# Altium footprint library tdk.PcbLib: 64 footprints (part 2 of 4)
Each footprint in its own frame and in the unit in brackets; x right, y up, seen from the top. Pads: shape width x height; smd on the part's side, far side on the other; paste and mask are expansions set on the pad; w line width, h text height; cw(c..) or ccw(c..) is an arc to the next point about the centre after c.
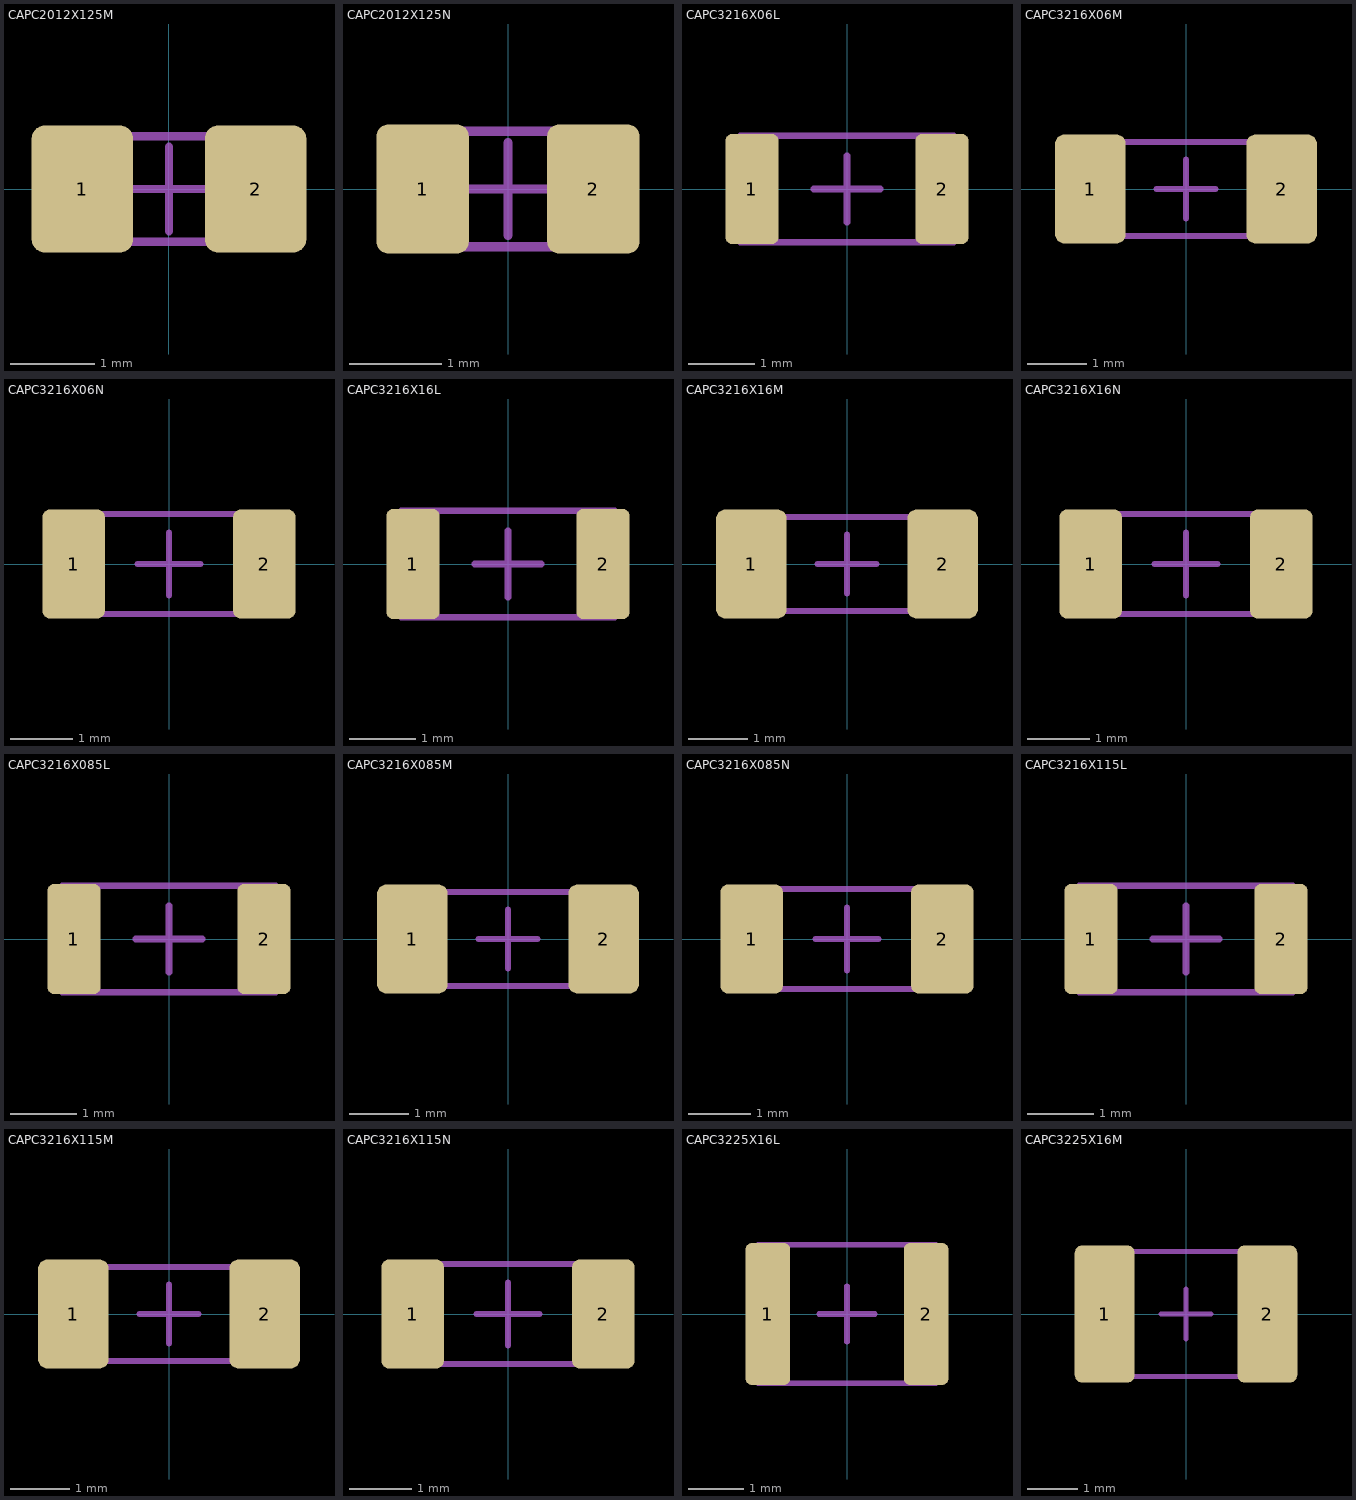
[diagram p1: the footprints below, top view; thin cyan lines are the x and y axes]

## CAPC2012X125M [mm] "Chip Capacitor, 2-Leads, Body 2.00x1.25mm, IPC Low Density"
height 1.25
pads (2):
  rrect25% 1.2x1.5 smd mask+0.05: 1(-1.025,0) 2(1.025,0)
Mechanical 15:
  lines w0.1: -0.5,0 0.5,0 ; 0,-0.5 0,0.5 ; -1,-0.625 1,-0.625 1,0.625 -1,0.625 -1,-0.625
3D body "CAPC2012X12M.step": height 1.25, standoff 0, extent -1,-0.625 1,0.625

## CAPC2012X125N [mm] "Chip Capacitor, 2-Leads, Body 2.00x1.25mm, IPC Medium Density"
height 1.25
pads (2):
  rrect25% 1x1.4 smd mask+0.05: 1(-0.925,0) 2(0.925,0)
Mechanical 15:
  lines w0.1: -0.5,0 0.5,0 ; 0,-0.5 0,0.5 ; -1,-0.625 1,-0.625 1,0.625 -1,0.625 -1,-0.625
3D body "CAPC2012X12N.step": height 1.25, standoff 0, extent -1,-0.625 1,0.625

## CAPC3216X06L [mm] "Chip Capacitor, 2-Leads, Body 3.20x1.60mm, IPC High Density"
height 0.6
pads (2):
  rrect25% 0.8x1.65 smd mask+0.05: 1(-1.425,0) 2(1.425,0)
Mechanical 15:
  lines w0.1: -0.5,0 0.5,0 ; 0,-0.5 0,0.5 ; -1.6,-0.8 1.6,-0.8 1.6,0.8 -1.6,0.8 -1.6,-0.8
3D body "CAPC3216X06L.step": height 0.6, standoff 0, extent -1.6,-0.8 1.6,0.8

## CAPC3216X06M [mm] "Chip Capacitor, 2-Leads, Body 3.20x1.60mm, IPC Low Density"
height 0.6
pads (2):
  rrect25% 1.2x1.85 smd mask+0.05: 1(-1.625,0) 2(1.625,0)
Mechanical 15:
  lines w0.1: -0.5,0 0.5,0 ; 0,-0.5 0,0.5 ; -1.6,-0.8 -1.6,0.8 1.6,0.8 1.6,-0.8 -1.6,-0.8
3D body "CAPC3216X06M.step": height 0.6, standoff 0, extent -1.6,-0.8 1.6,0.8

## CAPC3216X06N [mm] "Chip Capacitor, 2-Leads, Body 3.20x1.60mm, IPC Medium Density"
height 0.6
pads (2):
  rrect25% 1x1.75 smd mask+0.05: 1(-1.525,0) 2(1.525,0)
Mechanical 15:
  lines w0.1: -0.5,0 0.5,0 ; 0,-0.5 0,0.5 ; -1.6,-0.8 -1.6,0.8 1.6,0.8 1.6,-0.8 -1.6,-0.8
3D body "CAPC3216X06N.step": height 0.6, standoff 0, extent -1.6,-0.8 1.6,0.8

## CAPC3216X16L [mm] "Chip Capacitor, 2-Leads, Body 3.20x1.60mm, IPC High Density"
height 1.6
pads (2):
  rrect25% 0.8x1.65 smd mask+0.05: 1(-1.425,0) 2(1.425,0)
Mechanical 15:
  lines w0.1: -0.5,0 0.5,0 ; 0,-0.5 0,0.5 ; -1.6,-0.8 1.6,-0.8 1.6,0.8 -1.6,0.8 -1.6,-0.8
3D body "CAPC3216X16L.step": height 1.6, standoff 0, extent -1.6,-0.8 1.6,0.8

## CAPC3216X16M [mm] "Chip Capacitor, 2-Leads, Body 3.20x1.60mm, IPC Low Density"
height 1.6
pads (2):
  rrect25% 1.2x1.85 smd mask+0.05: 1(-1.625,0) 2(1.625,0)
Mechanical 15:
  lines w0.1: -0.5,0 0.5,0 ; 0,-0.5 0,0.5 ; -1.6,-0.8 -1.6,0.8 1.6,0.8 1.6,-0.8 -1.6,-0.8
3D body "CAPC3216X16M.step": height 1.6, standoff 0, extent -1.6,-0.8 1.6,0.8

## CAPC3216X16N [mm] "Chip Capacitor, 2-Leads, Body 3.20x1.60mm, IPC Medium Density"
height 1.6
pads (2):
  rrect25% 1x1.75 smd mask+0.05: 1(-1.525,0) 2(1.525,0)
Mechanical 15:
  lines w0.1: -0.5,0 0.5,0 ; 0,-0.5 0,0.5 ; -1.6,-0.8 -1.6,0.8 1.6,0.8 1.6,-0.8 -1.6,-0.8
3D body "CAPC3216X16N.step": height 1.6, standoff 0, extent -1.6,-0.8 1.6,0.8

## CAPC3216X085L [mm] "Chip Capacitor, 2-Leads, Body 3.20x1.60mm, IPC High Density"
height 0.85
pads (2):
  rrect25% 0.8x1.65 smd mask+0.05: 1(-1.425,0) 2(1.425,0)
Mechanical 15:
  lines w0.1: -0.5,0 0.5,0 ; 0,-0.5 0,0.5 ; -1.6,-0.8 -1.6,0.8 1.6,0.8 1.6,-0.8 -1.6,-0.8
3D body "CAPC3216X08L.step": height 0.85, standoff 0, extent -1.6,-0.8 1.6,0.8

## CAPC3216X085M [mm] "Chip Capacitor, 2-Leads, Body 3.20x1.60mm, IPC Low Density"
height 0.85
pads (2):
  rrect25% 1.2x1.85 smd mask+0.05: 1(-1.625,0) 2(1.625,0)
Mechanical 15:
  lines w0.1: -0.5,0 0.5,0 ; 0,-0.5 0,0.5 ; -1.6,-0.8 1.6,-0.8 1.6,0.8 -1.6,0.8 -1.6,-0.8
3D body "CAPC3216X08M.step": height 0.85, standoff 0, extent -1.6,-0.8 1.6,0.8

## CAPC3216X085N [mm] "Chip Capacitor, 2-Leads, Body 3.20x1.60mm, IPC Medium Density"
height 0.85
pads (2):
  rrect25% 1x1.75 smd mask+0.05: 1(-1.525,0) 2(1.525,0)
Mechanical 15:
  lines w0.1: -0.5,0 0.5,0 ; 0,-0.5 0,0.5 ; -1.6,-0.8 1.6,-0.8 1.6,0.8 -1.6,0.8 -1.6,-0.8
3D body "CAPC3216X08N.step": height 0.85, standoff 0, extent -1.6,-0.8 1.6,0.8

## CAPC3216X115L [mm] "Chip Capacitor, 2-Leads, Body 3.20x1.60mm, IPC High Density"
height 1.15
pads (2):
  rrect25% 0.8x1.65 smd mask+0.05: 1(-1.425,0) 2(1.425,0)
Mechanical 15:
  lines w0.1: -0.5,0 0.5,0 ; 0,-0.5 0,0.5 ; -1.6,-0.8 1.6,-0.8 1.6,0.8 -1.6,0.8 -1.6,-0.8
3D body "CAPC3216X12L.step": height 1.15, standoff 0, extent -1.6,-0.8 1.6,0.8

## CAPC3216X115M [mm] "Chip Capacitor, 2-Leads, Body 3.20x1.60mm, IPC Low Density"
height 1.15
pads (2):
  rrect25% 1.2x1.85 smd mask+0.05: 1(-1.625,0) 2(1.625,0)
Mechanical 15:
  lines w0.1: -0.5,0 0.5,0 ; 0,-0.5 0,0.5 ; -1.6,-0.8 1.6,-0.8 1.6,0.8 -1.6,0.8 -1.6,-0.8
3D body "CAPC3216X12M.step": height 1.15, standoff 0, extent -1.6,-0.8 1.6,0.8

## CAPC3216X115N [mm] "Chip Capacitor, 2-Leads, Body 3.20x1.60mm, IPC Medium Density"
height 1.15
pads (2):
  rrect25% 1x1.75 smd mask+0.05: 1(-1.525,0) 2(1.525,0)
Mechanical 15:
  lines w0.1: -0.5,0 0.5,0 ; 0,-0.5 0,0.5 ; -1.6,-0.8 1.6,-0.8 1.6,0.8 -1.6,0.8 -1.6,-0.8
3D body "CAPC3216X12N.step": height 1.15, standoff 0, extent -1.6,-0.8 1.6,0.8

## CAPC3225X16L [mm] "Chip Capacitor, 2-Leads, Body 3.20x2.50mm, IPC High Density"
height 1.6
pads (2):
  rrect25% 0.8x2.55 smd mask+0.05: 1(-1.425,0) 2(1.425,0)
Mechanical 15:
  lines w0.1: -0.5,0 0.5,0 ; 0,-0.5 0,0.5 ; -1.6,-1.25 1.6,-1.25 1.6,1.25 -1.6,1.25 -1.6,-1.25
3D body "CAPC3225X16L.step": height 1.6, standoff 0, extent -1.6,-1.25 1.6,1.25

## CAPC3225X16M [mm] "Chip Capacitor, 2-Leads, Body 3.20x2.50mm, IPC Low Density"
height 1.6
pads (2):
  rrect25% 1.2x2.75 smd mask+0.05: 1(-1.625,0) 2(1.625,0)
Mechanical 15:
  lines w0.1: -0.5,0 0.5,0 ; 0,-0.5 0,0.5 ; -1.6,-1.25 1.6,-1.25 1.6,1.25 -1.6,1.25 -1.6,-1.25
3D body "CAPC3225X16M.step": height 1.6, standoff 0, extent -1.6,-1.25 1.6,1.25